# Altium schematic symbol library MiniRobot.SchLib: 13 symbols
Pins are listed as number, name and electrical type; pins without a type are passive.

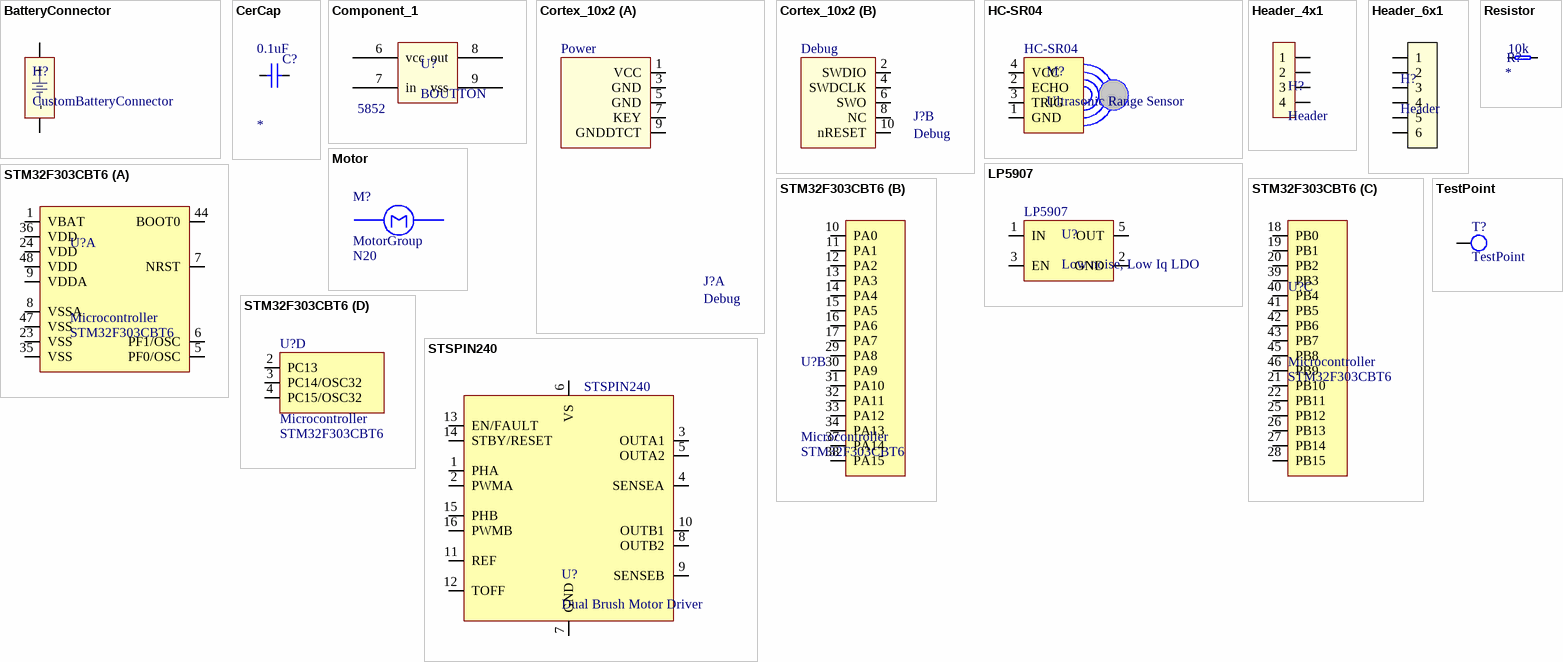
[diagram p0: symbols BatteryConnector to TestPoint]

## BatteryConnector
designator H?, comment CustomBatteryConnector
Custom Battery Connector
footprint CustomBatteryConnector
pins: +, -

## CerCap
designator C?  value 0.1uF  (hidden comment: *)
Ceramic Capacitor; Type: *; Voltage/Power: *; Package: *
footprint 0603_CAP_LD (0603 Capacitor Low Density)
pins: 1, 2

## Component_1
designator U?, comment BOUTTON  REFERENCE: 5852
pins: 6 vcc, 7 in, 8 out, 9 vss

## Cortex_10x2
designator J?, comment Debug
Cortex 10 pins Debug Connector
footprint FCI_5x2 (FCI Header 10x2 1.27 pitch)
footprint 62201021121 (Pin Header, pitch 1.27 mm, THT, Vertical, dual row, 10p)
part A pins: 1 VCC, 3 GND, 5 GND, 7 KEY, 9 GNDDTCT
part B pins: 2 SWDIO, 4 SWDCLK, 6 SWO, 8 NC, 10 nRESET
part A text: Power

## HC-SR04
designator M?, comment Ultrasonic Range Sensor  Reference: HC-SR04
footprint HC-SR04
pins: 1 GND, 2 ECHO, 3 TRIG, 4 VCC

## Header_4x1
designator H?, comment Header
Header 4x1 PIns
footprint HEADER_1X4_PICOBLADE_653104124022 (1.25mm SMT Male Vertical Shrouded Header, 4p)
footprint HEADER_1x4_PICOBLADE_653104131822 (1.25mm SMT Male Horizontal Shrouded Header, 4p)
footprint HE14 1x4 Straight (Connector HE14 Straight 1x4)
pins: 1, 2, 3, 4

## Header_6x1
designator H?, comment Header
Header 6x1 Pins
footprint HEADER_1X6_PICOBLADE_653106124022 (1.25mm SMT Male Vertical Shrouded Header, 6p)
footprint HEADER_1X6_PICOBLADE_653106131822 (1.25mm SMT Male Horizontal Shrouded Header, 6p)
pins: 1, 2, 3, 4, 5, 6

## LP5907
designator U?, comment Low noise, Low Iq LDO  Reference: LP5907
LP5907 Low Noise Low Iq LDO
footprint LP5907 (LP5907 SOT23)
pins: 1 IN, 2 GND, 3 EN, 4 NC hidden, 5 OUT

## Motor
designator M?, comment MotorGroup  Reference: N20
N20 Motor Group
footprint MotorGroup

## Resistor
designator R?  value 10k  (hidden comment: Resistor)
Precision: *; Package: *
footprint 0603_RES_LD (0603 Resistor Low Density)
footprint 2512_RES_LD (2512 Low Density Resistor)
pins: 1, 2

## STM32F303CBT6
designator U?, comment Microcontroller  Reference: STM32F303CBT6
STM32F303 Microcontroller
footprint STM32_LQFP48
part A pins: 1 VBAT, 5 PF0/OSC, 6 PF1/OSC, 7 NRST, 8 VSSA, 9 VDDA, 23 VSS, 24 VDD, 35 VSS, 36 VDD, 44 BOOT0, 47 VSS, 48 VDD
part B pins: 10 PA0, 11 PA1, 12 PA2, 13 PA3, 14 PA4, 15 PA5, 16 PA6, 17 PA7, 29 PA8, 30 PA9, 31 PA10, 32 PA11, 33 PA12, 34 PA13, 37 PA14, 38 PA15
part C pins: 18 PB0, 19 PB1, 20 PB2, 21 PB10, 22 PB11, 25 PB12, 26 PB13, 27 PB14, 28 PB15, 39 PB3, 40 PB4, 41 PB5, 42 PB6, 43 PB7, 45 PB8, 46 PB9
part D pins: 2 PC13, 3 PC14/OSC32, 4 PC15/OSC32

## STSPIN240
designator U?, comment Dual Brush Motor Driver  Reference: STSPIN240
ST Dual Motor Driver
footprint QFN-STSPIN240 (QFN, 16-Leads, Body 3,00x3,00mm, Pitch 0,50mm, Thermal Pad 1,80x1,80mm, IPC Low Density)
pins: 1 PHA, 2 PWMA, 3 OUTA1, 4 SENSEA, 5 OUTA2, 6 VS, 7 GND, 8 OUTB2, 9 SENSEB, 10 OUTB1, 11 REF, 12 TOFF, 13 EN/FAULT, 14 STBY/RESET, 15 PHB, 16 PWMB

## TestPoint
designator T?  (no BOM)
footprint ROUND_TEST_POINT (Small round test point)
pins: 1 TP